# EAGLE library part SMLP36 (library led)
Tri-Color 0604 - ROHM
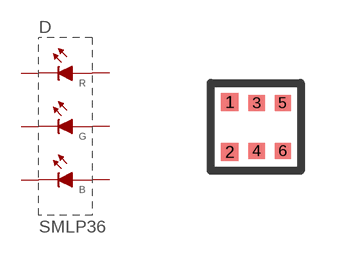
[diagram p6: symbol with the pads of SMLP36; footprint SMLP36]

Designator prefix D

## SMLP36  [SMLP36]
1  CB  pas
2  AB  pas
3  CR  pas
4  AR  pas
5  CG  pas
6  AG  pas

## Footprint SMLP36 (pad centres in mm)
Tri-Color 0604 - ROHM
smd 0.45 x 0.45: 1 -0.675,0.625; 2 -0.675,-0.625
smd 0.4 x 0.4: 3 0,0.6; 4 0,-0.6; 5 0.65,0.6; 6 0.65,-0.6